# EAGLE library part 1445055-9 (library con-amp)
Micro MATE-N-LOK Connectors grid 1.5 mm Source: ENG_CD_1445055_A.pdf
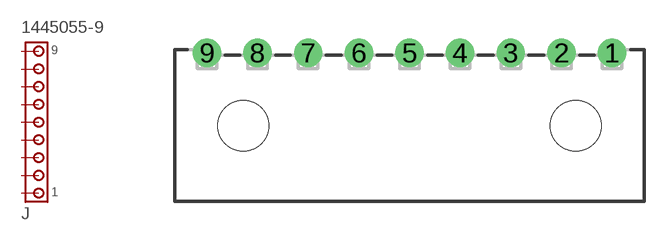
[diagram p145: symbol with the pads of 1445055-9; footprint 1445055-9]

Designator prefix J

## 1445055-9  [1445055-9]
1  1  pas
2  2  pas
3  3  pas
4  4  pas
5  5  pas
6  6  pas
7  7  pas
8  8  pas
9  9  pas

## Footprint 1445055-9 (pad centres in mm)
Micro MATE-N-LOK Connectors grid 3.0 mm Source: ENG_CD_1445055_A.pdf
drill 1 pad 1.676 round: 1 12,4.32; 2 9,4.32; 3 6,4.32; 4 3,4.32; 5 0,4.32; 6 -3,4.32; 7 -6,4.32; 8 -9,4.32; 9 -12,4.32
hole 3 at -9.85,0
hole 3 at 9.85,0